# EAGLE library part PCA9556 (library nxp)
I/O EXPANDER Octal SMBus and I2C registered interface
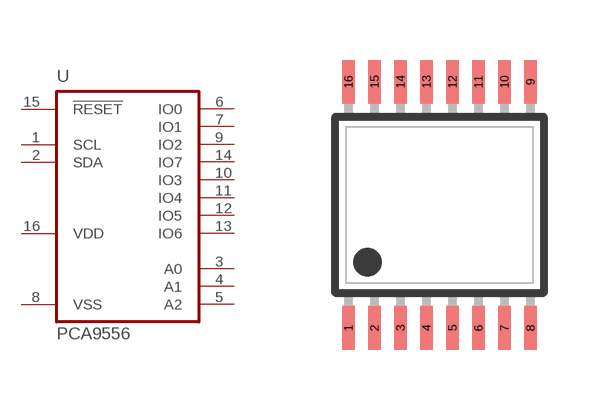
[diagram p0: symbol with the pads of TSSOP16; footprint TSSOP16]

Designator prefix U

## PCA9556PW  [TSSOP16]
1  SCL  in
2  SDA
3  A0  in
4  A1  in
5  A2  in
6  IO0
7  IO1
8  VSS  pwr
9  IO2
10  IO3
11  IO4
12  IO5
13  IO6
14  IO7
15  !RESET  in
16  VDD  pwr

## Footprint TSSOP16 (pad centres in mm)
Thin Shrink Small Outline Plastic 16
smd 0.31 x 1.1: 1 -2.275,-3.08; 2 -1.625,-3.08; 3 -0.975,-3.08; 4 -0.325,-3.08; 5 0.325,-3.08; 6 0.975,-3.08; 7 1.625,-3.08; 8 2.275,-3.08; 9 2.275,3.08; 10 1.625,3.08; 11 0.975,3.08; 12 0.325,3.08; 13 -0.325,3.08; 14 -0.975,3.08; 15 -1.625,3.08; 16 -2.275,3.08